# EAGLE library part EXBQ (library m-pad)
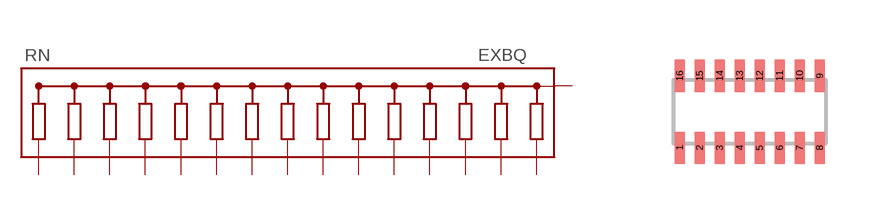
[diagram p122: symbol with the pads of EXBQ; footprint EXBQ]

Designator prefix RN

## EXBQ  [EXBQ]
1  1  pas
2  2  pas
3  3  pas
4  4  pas
5  5  pas
6  6  pas
7  7  pas
8  8  pas
9  9  pas
10  10  pas
11  11  pas
12  12  pas
13  13  pas
14  14  pas
15  15  pas
16  POL  pas

## Footprint EXBQ (pad centres in mm)
Panasonic EXBQ:1506 Chip Resistor Networks
smd 0.25 x 0.8: 1 -1.75,-0.9; 2 -1.25,-0.9; 3 -0.75,-0.9; 4 -0.25,-0.9; 5 0.25,-0.9; 6 0.75,-0.9; 7 1.25,-0.9; 8 1.75,-0.9; 9 1.75,0.9; 10 1.25,0.9; 11 0.75,0.9; 12 0.25,0.9; 13 -0.25,0.9; 14 -0.75,0.9; 15 -1.25,0.9; 16 -1.75,0.9